# EAGLE library part K-HEADER-FEMALE-2X9- (library elpp-tht-v1.4)
FEMALE HEADER, 2 rows
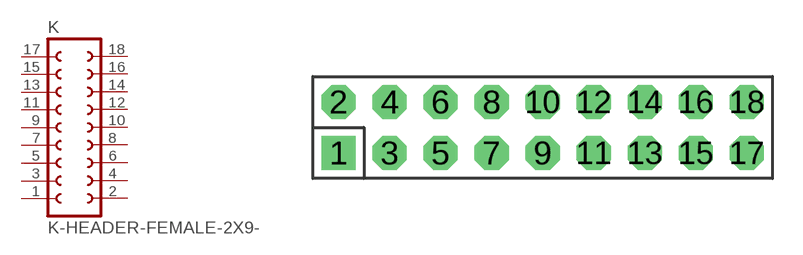
[diagram p43: symbol with the pads of ELPP-DIL-F-18-WAY-V; footprint ELPP-DIL-F-18-WAY-V]

Designator prefix K

## K-HEADER-FEMALE-2X9-V (FARNELL: 9728872; RS: unknown)  [ELPP-DIL-F-18-WAY-V]
1  1  pas
2  2  pas
3  3  pas
4  4  pas
5  5  pas
6  6  pas
7  7  pas
8  8  pas
9  9  pas
10  10  pas
11  11  pas
12  12  pas
13  13  pas
14  14  pas
15  15  pas
16  16  pas
17  17  pas
18  18  pas

## Footprint ELPP-DIL-F-18-WAY-V (pad centres in mm)
FEMALE HEADER
drill 1 pad 1.7 square: 1 -5.08,0
drill 1 pad 1.7 octagon: 2 -5.08,2.54; 3 -2.54,0; 4 -2.54,2.54; 5 0,0; 6 0,2.54; 7 2.54,0; 8 2.54,2.54; 9 5.08,0; 10 5.08,2.54; 11 7.62,0; 12 7.62,2.54; 13 10.16,0; 14 10.16,2.54; 15 12.7,0; 16 12.7,2.54; 17 15.24,0; 18 15.24,2.54